# Altium schematic symbol library TXS0108ERGYR.SchLib: 1 symbol
Pins are listed as number, name and electrical type; pins without a type are passive.

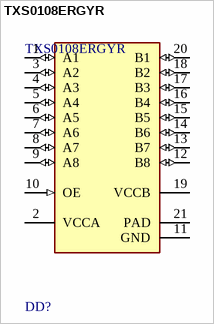
[diagram p0: symbol TXS0108ERGYR]

## TXS0108ERGYR
designator DD?
IC TRNSLATOR BIDIRECTIONAL 20VQFN; Propagation Delay: 4.8ns; Number of Channels: 8; High Level Output Current: -50mA; Min Supply Voltage: 1.2V; Data Rate: 60Mbps; Quiescent Current: 3uA; Logic Function: Translator; Low Level Output Current: 50mA; Max Supply Voltage: 5.5V; Output Type: Voltage; Turn-On Delay Time: 312ns; Packaging: Tape and Reel; Min Operating Temperature: -40°C; Package Quantity: 1; Case/Package: VQFN; Mount: Surface Mount; Number of Pins: 20; Radiation Hardening: No; Series: -; RoHS Compliant: Yes; REACH SVHC: No SVHC; Max Operating Temperature: 85°C; Number of Bits: 8; Lead Free: Lead Free; Weight: 0.001517oz; Number of Inputs: 8
footprint FP-RGY0020A-MFG
pins: 1 A1 (io), 2 VCCA (power), 3 A2 (io), 4 A3 (io), 5 A4 (io), 6 A5 (io), 7 A6 (io), 8 A7 (io), 9 A8 (io), 10 OE (in), 11 GND (power), 12 B8 (io), 13 B7 (io), 14 B6 (io), 15 B5 (io), 16 B4 (io), 17 B3 (io), 18 B2 (io), 19 VCCB (power), 20 B1 (io), 21 PAD (power)